# Altium schematic symbol library Sucaiku.SCHLIB: 81 symbols (part 2 of 2)
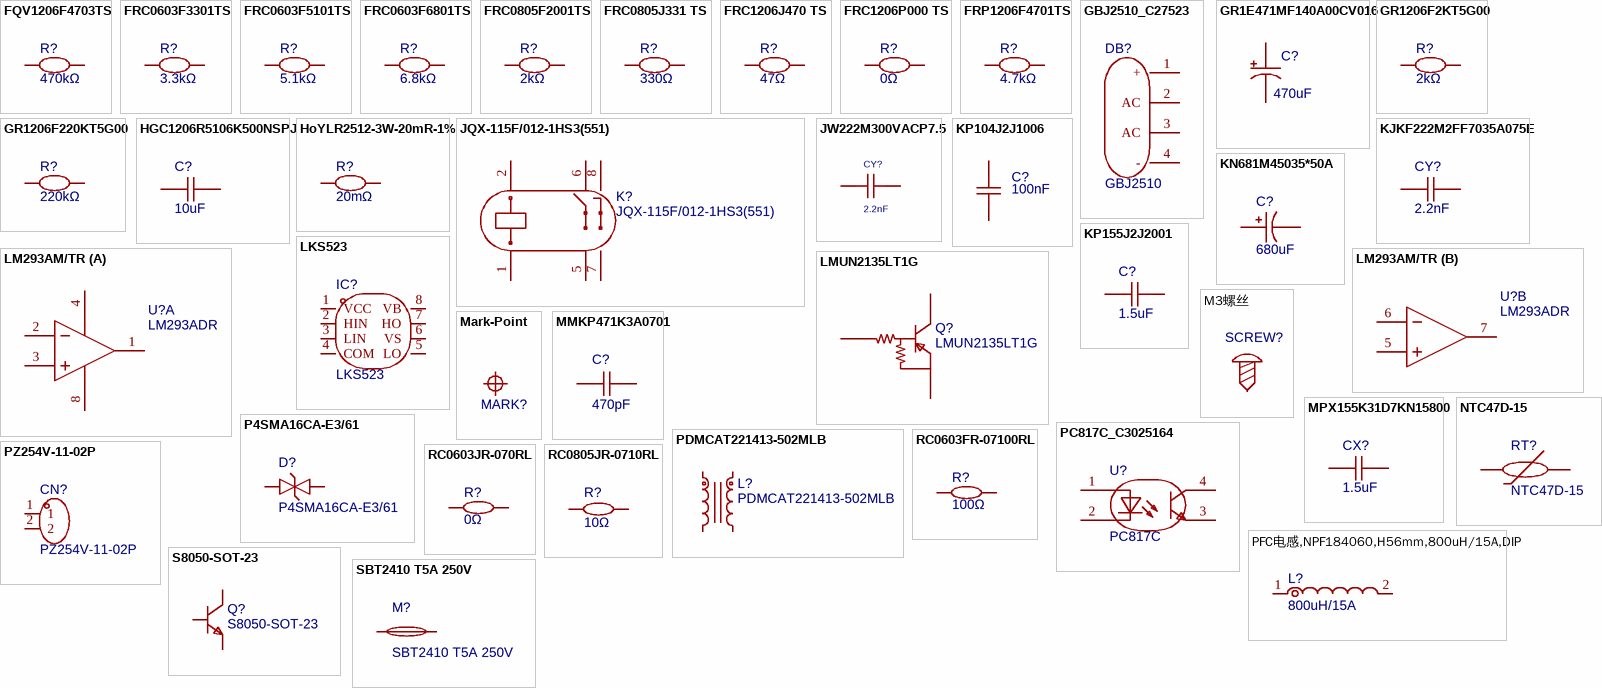
[diagram p3: symbols FQV1206F4703TS to SBT2410 T5A 250V]

## KP155J2J2001
designator C?, comment 1.5uF
容值:1.5uF;精度:±5%;额定电压:630V;工作温度:-40℃~+100℃;; Manufacturer: KYET(科雅); Symbol: KP155J2J2001; AddInBom: yes; ModelId: 8da85e7d984543eb9369ef1ce3ef33f5聨0819f05c4eef4c71ace90d822a990e87; ModelName: CAP-TH_L22.0-W11.0-P20.00-D0.7; ModelTransform: 866.14,433.464,0,0,0,0,0,0,-177.165; Tolerance: ±5%; Voltage Rating: 630V; Device: KP155J2J2001; LCSC Part Name: 1.5uF ±5% 630V; SupplierPart: C3019082; ManufacturerPart: KP155J2J2001; Supplier Footprint: 插件,P=20mm; JLCPCB Part Class: Extended Part; Datasheet: https://item.szlcsc.com/datasheet/KP155J2J2001/3534047.html; Supplier: LCSC; ConvertToPcb: yes; FootprintName: CBB 20*16*8.5; Value: 1.5uF; Operating Temperature: -40℃~+100℃
footprint CBB 20*16*8.5
pins: 1, 2

## LKS523
designator IC?
驱动配置:半桥;负载类型:MOSFET；IGBT;驱动通道数:2;灌电流(IOL):-;拉电流(IOH):-;工作电压:10V~20V;上升时间(tr):160ns;下降时间(tf):40ns;; Manufacturer: LINKOSEMI(凌鸥创芯); AddInBom: yes; ModelId: 75c24a7891ee4dd6bdac16a7163ff87e聨0819f05c4eef4c71ace90d822a990e87; ModelName: SOP-8_L4.9-W3.9-P1.27-LS6.0-BL-1; ModelTransform: 192.913,236.22,0,0,0,0,-0.393,2.749,0; Driven Configuration: 半桥; Number of Drivers: 2; Rise Time: 160ns; Fall Time: 40ns; Propagation Delay tpLH: 250ns; Input Logic Level - High: 2.4V~10V; Quiescent Current(Iq): 50uA; Symbol: LKS523; Device: LKS523; LCSC Part Name: 600V半桥预驱动器; SupplierPart: C6337451; ManufacturerPart: LKS523; Supplier Footprint: SOP-8; JLCPCB Part Class: Extended Part; Datasheet: https://item.szlcsc.com/datasheet/LKS523/7286042.html; Supplier: LCSC; ConvertToPcb: yes; FootprintName: SOP-8_L4.9-W3.9-P1.27-LS6.0-BL; Load Type: MOSFET；IGBT; Current - Output Low(IOL): -; Current - Output High(IOH): -; Voltage - Supply: 10V~20V; Propagation Delay tpHL: -; Features: 欠压保护(UVP); Operating Temperature: -40℃~+150℃; Input Logic Level - Low: -
footprint SOP-8_L4.9-W3.9-P1.27-LS6.0-BL
pins: 1 VCC, 2 HIN, 3 LIN, 4 COM, 5 LO, 6 VS, 7 HO, 8 VB

## LM293AM/TR
designator U?, comment LM293ADR
比较器数:双路;输入失调电压(Vos):1mV;输入偏置电流(Ib):100nA;; Manufacturer: HGSEMI(华冠); Symbol: LM293AM/TR; Relevance: []; AddInBom: yes; ModelId: 23a59470b1e946e0afe388c2a9d3f488聨0819f05c4eef4c71ace90d822a990e87; ModelName: SOIC-8_L4.9-W3.9-P1.27-LS6.2-BL; ModelTransform: 192.913,236.22,0,0,0,0,0,0,0; Number of Channels: 双路; Vos - Input Offset Voltage: 1mV; Ib - Input Bias Current: 100nA; Voltage - Supply: ±16V；2V~32V; Quiescent Current per Amplifier: 600uA; Device: LM293AM/TR; Manufacturer Part: LM293ADR; LCSC Part Name: 双路开漏输出电压比较器; SupplierPart: C22461615; Supplier Footprint: SOP-8; JLCPCB Part Class: Extended Part; Datasheet: https://atta.szlcsc.com/upload/public/pdf/source/20240606/E2D352B189AFBE73CA0A08DC2990A498.pdf; Supplier: LCSC; ConvertToPcb: yes; FootprintName: SOIC-8_L4.9-W3.9-P1.27-LS6.2-BL; Common Mode Rejection Ratio(CMRR): -; Output Type: -; Operating Temperature: -40℃~+85℃
footprint SOIC-8_L4.9-W3.9-P1.27-LS6.2-BL
part A pins: 1 OUT1, 2 IN1-, 3 IN1+, 4 VEE, 8 VCC
part B pins: 5 IN2+, 6 IN2-, 7 OUT2

## LMUN2135LT1G
designator Q?
数量:-;集射极击穿电压(Vceo):50V;集电极电流(Ic):100mA;耗散功率(Pd):246mW;直流电流增益(hFE):80@5.0mA,10V;; Manufacturer: LRC(乐山无线电); AddInBom: yes; ModelId: c62791f0466c4ae2a892c056b845b0ca聨0819f05c4eef4c71ace90d822a990e87; ModelName: SOT-23-3P_L2.9-W1.3-H1.0-LS2.4-P0.95; ModelTransform: 98.425,114.173,0,180,0,0,0.0005,-0.0005,0; Collector - Emitter Voltage VCEO: 50V; Current - Collector(Ic): 100mA; Pd - Power Dissipation: 246mW; type: PNP; Output Voltage(VO(on)): 200mV; Input Resistor: 2.2kΩ; Resistor Ratio: 0.047; Symbol: LMUN2135LT1G; Device: LMUN2135LT1G; LCSC Part Name: 偏置电阻晶体管; SupplierPart: C136189; ManufacturerPart: LMUN2135LT1G; Supplier Footprint: SOT-23; JLCPCB Part Class: Extended Part; Datasheet: https://item.szlcsc.com/datasheet/LMUN2135LT1G/147503.html; Supplier: LCSC; ConvertToPcb: yes; FootprintName: SOT-23-3_L2.9-W1.3-P1.90-LS2.4-BR; Number: -; DC Current Gain: 80@5.0mA,10V; Operating Temperature: -55℃~+150℃
footprint SOT-23-3_L2.9-W1.3-P1.90-LS2.4-BR
pins: 1 B, 2 E, 3 C

## M3螺丝
designator SCREW?
Symbol: 螺丝孔; Device: M3螺丝; ConvertToPcb: yes; AddInBom: yes; Supplier Footprint: 插件; FootprintName: M3螺丝
footprint M3螺丝
pins: 1

## Mark-Point
designator MARK?
Mark点; Symbol: Mark-Point; AddInBom: no; ConvertToPcb: yes; Device: Mark-Point; FootprintName: Mark-Point-1mm
footprint Mark-Point-1mm
pins: 1

## MMKP471K3A0701
designator C?, comment 470pF
容值:470pF;精度:±10%;额定电压:1kV;工作温度:-40℃~+105℃;; Manufacturer: KYET(科雅); Symbol: MMKP471K3A0701; AddInBom: yes; ModelId: 99f403e9d14b42e0ad59132bb97445e0聨0819f05c4eef4c71ace90d822a990e87; ModelName: CAP-TH_BD10.0-W4.0-P7.5; ModelTransform: 392.81,165.20329,0,0,0,0,0,0,-137.795; Tolerance: ±10%; Voltage Rating: 1kV; Device: MMKP471K3A0701; LCSC Part Name: 470pF ±10% 1kV; SupplierPart: C3019027; ManufacturerPart: MMKP471K3A0701; Supplier Footprint: 插件,P=7.5mm; JLCPCB Part Class: Extended Part; Datasheet: https://item.szlcsc.com/datasheet/MMKP471K3A0701/3533992.html; Supplier: LCSC; ConvertToPcb: yes; FootprintName: CAP-TH_L10.0-W4.0-P7.50-D0.6; Value: 470pF; Operating Temperature: -40℃~+105℃
footprint CAP-TH_L10.0-W4.0-P7.50-D0.6
pins: 1, 2

## MPX155K31D7KN15800
designator CX?, comment 1.5uF
容值:1.5uF;精度:±10%;工作电压(AC):275V；310V；305V;防护等级:X2;; Manufacturer: KNSCHA(科尼盛); Symbol: MPX155K31D7KN15800; AddInBom: yes; ModelId: 67037bbaf53542ae96805cc30c99990b聨0819f05c4eef4c71ace90d822a990e87; ModelName: CAP-TH_L18.0-W11.0-H19.0-P15.0; ModelTransform: 708.66,433.07,0,0,0,0,0,0,-137.795; Tolerance: ±10%; Ratings: X2; safety certification: UL；CUL；KC；ENEC；VDE；CQC; Device: MPX155K31D7KN15800; LCSC Part Name: 1.5uF ±10% 275V 305V 310V 等级:X2; SupplierPart: C504227; ManufacturerPart: MPX155K31D7KN15800; Supplier Footprint: 插件,P=15mm; JLCPCB Part Class: Extended Part; Datasheet: https://item.szlcsc.com/datasheet/MPX155K31D7KN15800/516886.html; Supplier: LCSC; ConvertToPcb: yes; FootprintName: CAP-TH_L18.0-W11.0-P15.00-D0.8; Value: 1.5uF; Voltage(AC): 275V；310V；305V; Operating Temperature: -40℃~+110℃
footprint CAP-TH_L18.0-W11.0-P15.00-D0.8
pins: 1, 2

## NTC47D-15
designator RT?
阻值:47Ω;B值(25℃/50℃):-;功率:-;B值精度:-;最大稳态电流(25℃):3A;; Manufacturer: RUILON(瑞隆源); Symbol: MF72 47D15; AddInBom: yes; ModelId: 2867f97682bb4e60b655d19a123637de聨0819f05c4eef4c71ace90d822a990e87; ModelName: RES-TH_L16.5-W7.0-H22.5-P7.50-D0.8-S7.0; ModelTransform: 649.47319,307.086,0,0,0,0,0.079,0,-196.85; Resistance @ 25℃: 47Ω; Steady State Current (Max): 3A; Device: NTC47D-15; LCSC Part Name: 47Ω; SupplierPart: C12398; ManufacturerPart: NTC47D-15; Supplier Footprint: 插件,P=7.5mm; JLCPCB Part Class: Extended Part; Datasheet: https://item.szlcsc.com/datasheet/NTC47D-15/13028.html; Supplier: LCSC; ConvertToPcb: yes; FootprintName: NTC-7.5-11; B Constant (25℃/50℃): -; B Constant (25℃/75℃): -; B Constant (25℃/85℃): -; B Constant (25℃/100℃): -; Power(Watts): -; B Constant Tolerance: -; Operating Temperature: -55℃~+200℃
footprint NTC-7.5-11
pins: 1, 2

## P4SMA16CA-E3/61
designator D?
极性:双向;反向截止电压(Vrwm):13.6V;钳位电压:22.5V;峰值脉冲电流(Ipp):17.8A;峰值脉冲功率(Ppp):400W@10/1000us;击穿电压:15.2V;; Manufacturer: VISHAY(威世); AddInBom: yes; ModelId: 1e67c61657434d61bdab16e34a20f5ac聨0819f05c4eef4c71ace90d822a990e87; ModelName: SMA_L4.3-W2.7-LS5.1-BI; ModelTransform: 200.787,106.299,0,0,0,0,0,0,0; Polarity: 双向; Reverse Stand-Off Voltage (Vrwm): 13.6V; Clamping Voltage: 22.5V; Peak Pulse Current (Ipp): 17.8A; Voltage - Breakdown: 15.2V; Reverse Leakage Current (Ir): 1uA; Type: TVS; Symbol: P4SMA16CA-E3/61; Device: P4SMA16CA-E3/61; LCSC Part Name: P4SMA16CA-E3/61; SupplierPart: C1974891; ManufacturerPart: P4SMA16CA-E3/61; Supplier Footprint: SMA(DO-214AC); JLCPCB Part Class: Extended Part; Datasheet: https://item.szlcsc.com/datasheet/P4SMA16CA-E3%252F61/2066429.html; Supplier: LCSC; ConvertToPcb: yes; FootprintName: SMA_L4.3-W2.7-LS5.1-BI; Peak Pulse Power Dissipation (Ppp): 400W@10/1000us; Operating Temperature: -65℃~+150℃
footprint SMA_L4.3-W2.7-LS5.1-BI
pins: 1, 2

## PC817C_C3025164
designator U?, comment PC817C
输入类型:DC;正向压降(Vf):1.2V;输出电流:50mA;隔离电压(Vrms):5kV;直流反向耐压(Vr):6V;负载电压:35V;输出通道数:1;集射极饱和电压(VCE(sat)):100mV@1mA,20mA;; Manufacturer: GOODWORK(固得沃克); Symbol: PC817C_C3025164; AddInBom: yes; ModelId: 2d94a81bf94f4608bff03a785b63c361聨0819f05c4eef4c71ace90d822a990e87; ModelName: OPTO-SMD-4_L4.6-W6.5-H3.6-LS10.2-P2.54; ModelTransform: 401.574,181.102,0,0,0,0,0,0,0; Input type: DC; Output Type: 光电三极管; Voltage - Forward(Vf): 1.2V; Output Current: 50mA; Isolation Voltage(Vrms): 5kV; Reverse Voltage: 6V; Load Voltage: 35V; Number of Outputs: 1; Rise time: 6us@2mA,100Ω; Fall time: 5us; Current Transfer Ratio (CTR) Minimum: 200%; Current Transfer Ratio (CTR) Maximum/Saturation Value: 400%; Device: PC817C_C3025164; LCSC Part Name: C档 光电晶体管光电耦合器; SupplierPart: C3025164; ManufacturerPart: PC817C; Supplier Footprint: SMD-4P; JLCPCB Part Class: Extended Part; Datasheet: https://item.szlcsc.com/datasheet/PC817C/3553773.html; Supplier: LCSC; ConvertToPcb: yes; FootprintName: OPTO-SMD-4_L4.6-W6.5-P2.54-LS10.3-TL; Vce Saturation(VCE(sat)): 100mV@1mA,20mA; Operating Temperature: -55℃~+110℃; Forward Current(If): 50mA
footprint OPTO-SMD-4_L4.6-W6.5-P2.54-LS10.3-TL
pins: 1, 2, 3, 4

## PDMCAT221413-502MLB
designator L?
通道数:2;电感@频率:5mH@1kHz;阻抗@频率:-;直流电阻(DCR):28mΩ;; Manufacturer: PROD(谱罗德); AddInBom: yes; ModelId: a35421b700c54666aff5300c8b8d11b3聨0819f05c4eef4c71ace90d822a990e87; ModelName: IND-TH_4P-L28.0-W18.5_C2924777; ModelTransform: 1101.94449,728.345,0,0,0,0,0,0,-118.11; Number of Lines: 2; Current Rating: 9.5A; Voltage Rating - DC: 1.5kV; DC Resistance(DCR): 28mΩ; Symbol: PDMCAT221413-502MLB; Device: PDMCAT221413-502MLB; LCSC Part Name: 两路 插件共模滤波器; SupplierPart: C2924779; ManufacturerPart: PDMCAT221413-502MLB; Supplier Footprint: 插件-4P,28x18.5mm; JLCPCB Part Class: Extended Part; Datasheet: https://item.szlcsc.com/datasheet/PDMCAT221413-502MLB/3242508.html; Supplier: LCSC; ConvertToPcb: yes; FootprintName: IND-TH_4P-L28.0-W18.5_C2924777; Inductance @ Frequency: 5mH@1kHz; Impedance @ Frequency: -; Voltage Rating (AC): 1.5kV; Voltage Withstand: 1.5kV; Operating Temperature: -25℃~+105℃; Insulation Resistance(IR): -
footprint IND-TH_4P-L28.0-W18.5_C2924777
pins: 1, 2, 3, 4

## PFC电感,NPF184060,H56mm,800uH/15A,DIP
designator L?, comment 800uH/15A
Symbol: PFC电感,NPF184060,H56mm,800uH/15A,DIP; AddInBom: yes; OriginFootprint: L/56*30-V-50*30(25mm); Device: PFC电感,NPF184060,H56mm,800uH/15A,DIP; FootprintName: L/56*30-V-50*30(25mm)
footprint L/56*30-V-50*30(25mm)
pins: 1, 2

## PZ254V-11-02P
designator CN?
插针结构:1x2P;间距:2.54mm;行距:-;圆针/方针:方针;安装方式:直插;排数:单排;总PIN位数:2P;额定电流:3A;额定电压:250V;配合针长度:6mm;塑高:2.5mm;端接针长度:3mm;触头材质:黄铜;触头镀层:-;工作温度:-40℃~+105℃;颜色:黑色;; Manufacturer: XFCN(兴飞); AddInBom: yes; ModelId: e35305ec3aa84b66b849f914b715e73f聨0819f05c4eef4c71ace90d822a990e87; ModelName: HDR2.54-M-LI-1X2P; ModelTransform: 200,100,0,0,0,0,0,0,-118.11; Pin Structure: 1x2P; Pitch: 2.54mm; Circluar Pins/Square Pins: 方针; Current Rating: 3A; Voltage Rating (Max): 250V; Symbol: PZ254V-11-02P; Device: PZ254V-11-02P; LCSC Part Name: 1x2P 间距:2.54mm 方针 直插; SupplierPart: C492401; ManufacturerPart: PZ254V-11-02P; Supplier Footprint: 插件,P=2.54mm; JLCPCB Part Class: Extended Part; Datasheet: https://item.szlcsc.com/datasheet/PZ254V-11-02P/502957.html; Supplier: LCSC; ConvertToPcb: yes; FootprintName: HDR-TH_2P-P2.54-V-M; Row Spacing: -; Mounting Type: 直插; Number of Rows: 单排; Number of Pins: 2P; Length of Mating Pin: 6mm; Insulation Height: 2.5mm; Length of End Connection Pin: 3mm; Contact Material: 黄铜; Contact Plating: -; Operating Temperature: -40℃~+105℃; Color: 黑色
footprint HDR-TH_2P-P2.54-V-M
pins: 1, 2

## RC0603FR-07100RL
designator R?, comment 100Ω
电阻类型:厚膜电阻;阻值:100Ω;精度:±1%;功率:100mW;最大工作电压:75V;温度系数:±100ppm/℃;; Manufacturer: YAGEO(国巨); Symbol: RC0603FR-07100RL; AddInBom: yes; ModelId: fc143cca1e79419f9cd78b61e9279f08聨0819f05c4eef4c71ace90d822a990e87; ModelName: R0603; ModelTransform: 31.8897,63.7794,0,90,0,0,0,0,0; Tolerance: ±1%; Power(Watts): 100mW; Overload Voltage (Max): 75V; Device: RC0603FR-07100RL; LCSC Part Name: 厚膜电阻 100Ω ±1% 100mW; SupplierPart: C105588; ManufacturerPart: RC0603FR-07100RL; Supplier Footprint: 0603; JLCPCB Part Class: Extended Part; Datasheet: https://atta.szlcsc.com/upload/public/pdf/source/20180316/70C0E2BDAE7FCC62C531A5A58D202EE1.pdf; Supplier: LCSC; ConvertToPcb: yes; FootprintName: R0603; Type: 厚膜电阻; Value: 100Ω; Temperature Coefficient: ±100ppm/℃; Operating Temperature Range: -55℃~+155℃
footprint R0603
pins: 1, 2

## RC0603JR-070RL
designator R?, comment 0Ω
电阻类型:厚膜电阻;阻值:0Ω;精度:±5%;功率:100mW;工作电压:75V;温度系数:-;; Manufacturer: YAGEO(国巨); Symbol: RC0603JR-070RL; AddInBom: yes; ModelId: fc143cca1e79419f9cd78b61e9279f08聨0819f05c4eef4c71ace90d822a990e87; ModelName: R0603; ModelTransform: 31.8897,63.7794,0,90,0,0,0,0,0; Tolerance: ±5%; Power(Watts): 100mW; Voltage-Supply(Max): 75V; Device: RC0603JR-070RL; LCSC Part Name: 厚膜电阻 0Ω ±5% 100mW; SupplierPart: C95177; ManufacturerPart: RC0603JR-070RL; Supplier Footprint: 0603; JLCPCB Part Class: Extended Part; Datasheet: https://item.szlcsc.com/datasheet/RC0603JR-070RL/96378.html; Supplier: LCSC; ConvertToPcb: yes; FootprintName: R0603; Type: 厚膜电阻; Value: 0Ω; Temperature Coefficient: -; Operating Temperature: -55℃~+155℃
footprint R0603
pins: 1, 2

## RC0805JR-0710RL
designator R?, comment 10Ω
电阻类型:厚膜电阻;阻值:10Ω;精度:±5%;功率:125mW;工作电压:150V;温度系数:±200ppm/℃;; Manufacturer: YAGEO(国巨); Symbol: RC0805JR-0710RL; AddInBom: yes; ModelId: 37a81e68749a4138bd2dfa6897b24b85聨0819f05c4eef4c71ace90d822a990e87; ModelName: R0805_L2.0-W1.3-H0.6; ModelTransform: 78.74,51.181,0,0,0,0,0,-0.0005,0; Tolerance: ±5%; Power(Watts): 125mW; Voltage-Supply(Max): 150V; Device: RC0805JR-0710RL; LCSC Part Name: 厚膜电阻 10Ω ±5% 125mW; SupplierPart: C137478; ManufacturerPart: RC0805JR-0710RL; Supplier Footprint: 0805; JLCPCB Part Class: Extended Part; Datasheet: https://item.szlcsc.com/datasheet/RC0805JR-0710RL/148794.html; Supplier: LCSC; ConvertToPcb: yes; FootprintName: R0805; Type: 厚膜电阻; Value: 10Ω; Temperature Coefficient: ±200ppm/℃; Operating Temperature: -55℃~+155℃
footprint R0805
pins: 1, 2

## S8050-SOT-23
designator Q?
晶体管类型：NPN。                 集电极电流ICM:0.5A                   集电极-基极击穿电压BVCBO:40V         集电极-发射极击穿电压BVCEO:25V       直流电流增益HFE:200-350                        丝印：J3Y; Manufacturer: DDF(鼎德丰); AddInBom: yes; ModelId: 6ea1b42e609b4c388d37f6ca14da8e20聨0819f05c4eef4c71ace90d822a990e87; ModelName: SOT-23-3_L2.9-W1.3-P1.90-LS2.5-BR; ModelTransform: 114.173,98.425,0,90,0,0,0.001,-0.001,0; Symbol: S8050-SOT-23; Device: S8050-SOT-23; LCSC Part Name: S8050-SOT-23; SupplierPart: C50229533; ManufacturerPart: S8050-SOT-23; Supplier Footprint: SOT-23; JLCPCB Part Class: Extended Part; Datasheet: https://item.szlcsc.com/datasheet/S8050-SOT-23/52814686.html; Supplier: LCSC; ConvertToPcb: yes; FootprintName: SOT-23-3_L2.9-W1.3-P1.90-LS2.5-BR
footprint SOT-23-3_L2.9-W1.3-P1.90-LS2.5-BR
pins: 1 B, 2 E, 3 C

## SBT2410 T5A 250V
designator M?
Manufacturer: CHEVRON(诚润电子); AddInBom: yes; ModelId: f316ebb9f9ad4eff889fde0d73b65136聨0819f05c4eef4c71ace90d822a990e87; ModelName: FUSE-SMD_L6.0-W2.6; ModelTransform: 236.22,102.362,0,0,0,0,0,0,0; Symbol: SBT2410 T5A 250V; Device: SBT2410 T5A 250V; LCSC Part Name: 5A 250V; SupplierPart: C2839753; ManufacturerPart: SBT2410 T5A 250V; Supplier Footprint: SMD; JLCPCB Part Class: Extended Part; Datasheet: https://item.szlcsc.com/datasheet/SBT2410%2520T5A%2520250V/3017024.html; Supplier: LCSC; ConvertToPcb: yes; FootprintName: FUSE-SMD_L6.0-W2.6
footprint FUSE-SMD_L6.0-W2.6
pins: 1, 2

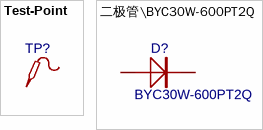
[diagram p2: symbols Test-Point to 二极管\BYC30W-600PT2Q]

## Test-Point
designator TP?
Test Point 测试点; Symbol: Test-Point; AddInBom: yes; Device: Test-Point; ConvertToPcb: yes; FootprintName: Test-Point-0.5mm
footprint Test-Point-0.5mm
pins: 1

## 二极管\BYC30W-600PT2Q
designator D?, comment BYC30W-600PT2Q
Symbol: 二极管\BYC30W-600PT2Q; SAP: 254259000038; AddInBom: yes; OriginFootprint: TO247B - 2pin; Device: 二极管\BYC30W-600PT2Q; FootprintName: TO247B - 2pin
footprint TO247B - 2pin
pins: 1 K, 2 A